# Altium schematic symbol library 核心板原理库.SchLib: 1 symbol
Pins are listed as number, name and electrical type; pins without a type are passive.

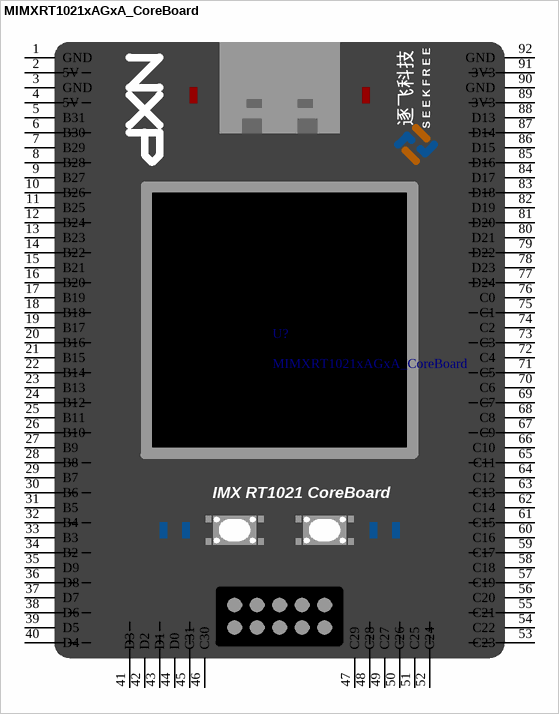
[diagram p0: symbol MIMXRT1021xAGxA_CoreBoard]

## MIMXRT1021xAGxA_CoreBoard
designator U?
逐飞科技i.MX RT1021核心板整体原理，可直接使用
footprint MIMXRT1021xAGxA_CoreBoard (Footprint not found)
pins: 1 GND, 2 5V, 3 GND, 4 5V, 5 B31, 6 B30, 7 B29, 8 B28, 9 B27, 10 B26, 11 B25, 12 B24, 13 B23, 14 B22, 15 B21, 16 B20, 17 B19, 18 B18, 19 B17, 20 B16, 21 B15, 22 B14, 23 B13, 24 B12, 25 B11, 26 B10, 27 B9, 28 B8, 29 B7, 30 B6, 31 B5, 32 B4, 33 B3, 34 B2, 35 D9, 36 D8, 37 D7, 38 D6, 39 D5, 40 D4, 41 D3, 42 D2, 43 D1, 44 D0, 45 C31, 46 C30, 47 C29, 48 C28, 49 C27, 50 C26, 51 C25, 52 C24, 53 C23, 54 C22, 55 C21, 56 C20, 57 C19, 58 C18, 59 C17, 60 C16, 61 C15, 62 C14, 63 C13, 64 C12, 65 C11, 66 C10, 67 C9, 68 C8, 69 C7, 70 C6, 71 C5, 72 C4, 73 C3, 74 C2, 75 C1, 76 C0, 77 D24, 78 D23, 79 D22, 80 D21, 81 D20, 82 D19, 83 D18, 84 D17, 85 D16, 86 D15, 87 D14, 88 D13, 89 3V3, 90 GND, 91 3V3, 92 GND
text: 逐飞科技; S E E K F R E E; IMX RT1021 CoreBoard